# Altium footprint library C0603 - MURATA.PcbLib: 1 footprints
Each footprint in its own frame and in the unit in brackets; x right, y up, seen from the top. Pads: shape width x height; smd on the part's side, far side on the other; paste and mask are expansions set on the pad; w line width, h text height; cw(c..) or ccw(c..) is an arc to the next point about the centre after c.
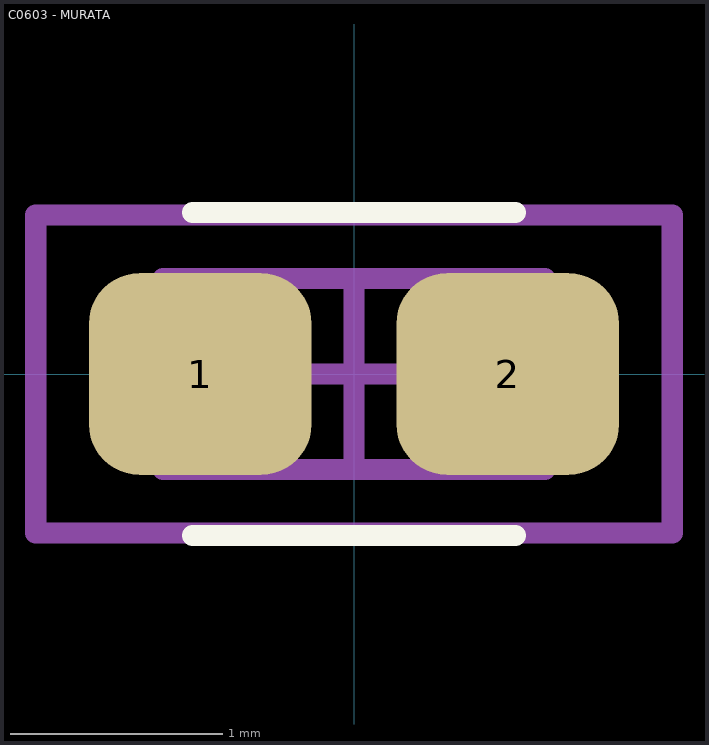
[diagram p0: the footprint, top view; thin cyan lines are the x and y axes]

## C0603 - MURATA [mm]
pads (2):
  rrect50% 1.05x0.95 smd: 1(-0.725,0) 2(0.725,0)
Top Overlay:
  lines w0.1: -0.762,-0.762 0.762,-0.762 ; -0.762,0.762 0.762,0.762
Top 3D Body:
  lines w0.1: -0.9,-0.45 -0.9,0.45 0.9,0.45 0.9,-0.45 -0.9,-0.45
Top Courtyard:
  lines w0.1: -0.45,0 0.45,0 ; 0,-0.45 0,0.45 ; -1.5,-0.75 -1.5,0.75 1.5,0.75 1.5,-0.75 -1.5,-0.75
Top Designator (Mech29):
  text ".Designator" at -1.262,-0.096 h0.25
3D body "C0603 --MURATA.step": height 0.9, standoff 0, extent -0.9,-0.45 0.9,0.45